# EAGLE library part LPC11A14/QFN_LITERAL (library microbuilder)
LPC11A14/QFN33 - 50MHz ARM Cortex M0 with 32kb Flash, 8kb SRAM, 10-bit ADC and DAC, Temperature Sensor, Analog Comparator, and 4kb EEPROM Temp Range: -40°C - 85°C VDD: 2.6-3.6V
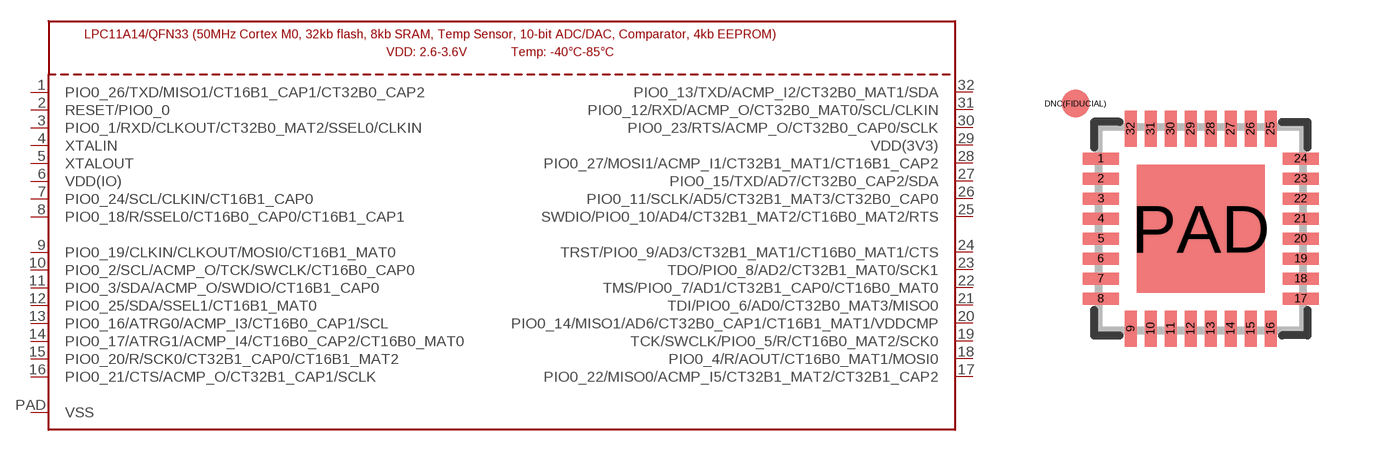
[diagram p205: symbol with the pads of HVQFN32; footprint HVQFN32]

Designator prefix U

## LPC11A14/QFN_LITERAL  [HVQFN32]
1  PIO0_26/TXD/MISO1/CT16B1_CAP1/CT32B0_CAP2
2  RESET/PIO0_0
3  PIO0_1/RXD/CLKOUT/CT32B0_MAT2/SSEL0/CLKIN
4  XTALIN  in
5  XTALOUT  out
6  VDD(IO)  sup
7  PIO0_24/SCL/CLKIN/CT16B1_CAP0
8  PIO0_18/R/SSEL0/CT16B0_CAP0/CT16B1_CAP1
9  PIO0_19/CLKIN/CLKOUT/MOSI0/CT16B1_MAT0
10  PIO0_2/SCL/ACMP_O/TCK/SWCLK/CT16B0_CAP0
11  PIO0_3/SDA/ACMP_O/SWDIO/CT16B1_CAP0
12  PIO0_25/SDA/SSEL1/CT16B1_MAT0
13  PIO0_16/ATRG0/ACMP_I3/CT16B0_CAP1/SCL
14  PIO0_17/ATRG1/ACMP_I4/CT16B0_CAP2/CT16B0_MAT0
15  PIO0_20/R/SCK0/CT32B1_CAP0/CT16B1_MAT2
16  PIO0_21/CTS/ACMP_O/CT32B1_CAP1/SCLK
17  PIO0_22/MISO0/ACMP_I5/CT32B1_MAT2/CT32B1_CAP2
18  PIO0_4/R/AOUT/CT16B0_MAT1/MOSI0
19  TCK/SWCLK/PIO0_5/R/CT16B0_MAT2/SCK0
20  PIO0_14/MISO1/AD6/CT32B0_CAP1/CT16B1_MAT1/VDDCMP
21  TDI/PIO0_6/AD0/CT32B0_MAT3/MISO0
22  TMS/PIO0_7/AD1/CT32B1_CAP0/CT16B0_MAT0
23  TDO/PIO0_8/AD2/CT32B1_MAT0/SCK1
24  TRST/PIO0_9/AD3/CT32B1_MAT1/CT16B0_MAT1/CTS
25  SWDIO/PIO0_10/AD4/CT32B1_MAT2/CT16B0_MAT2/RTS
26  PIO0_11/SCLK/AD5/CT32B1_MAT3/CT32B0_CAP0
27  PIO0_15/TXD/AD7/CT32B0_CAP2/SDA
28  PIO0_27/MOSI1/ACMP_I1/CT32B1_MAT1/CT16B1_CAP2
29  VDD(3V3)  sup
30  PIO0_23/RTS/ACMP_O/CT32B0_CAP0/SCLK
31  PIO0_12/RXD/ACMP_O/CT32B0_MAT0/SCL/CLKIN
32  PIO0_13/TXD/ACMP_I2/CT32B0_MAT1/SDA
PAD  VSS  sup

## Footprint HVQFN32 (pad centres in mm)
HVQFN32 SOT617-1 JEDEC MO-220
smd 0.9 x 0.3: 1 -2.5,1.75; 2 -2.5,1.25; 3 -2.5,0.75; 4 -2.5,0.25; 5 -2.5,-0.25; 6 -2.5,-0.75; 7 -2.5,-1.25; 8 -2.5,-1.75; 17 2.5,-1.75; 18 2.5,-1.25; 19 2.5,-0.75; 20 2.5,-0.25; 21 2.5,0.25; 22 2.5,0.75; 23 2.5,1.25; 24 2.5,1.75
smd 0.3 x 0.9: 9 -1.75,-2.5; 10 -1.25,-2.5; 11 -0.75,-2.5; 12 -0.25,-2.5; 13 0.25,-2.5; 14 0.75,-2.5; 15 1.25,-2.5; 16 1.75,-2.5; 25 1.75,2.5; 26 1.25,2.5; 27 0.75,2.5; 28 0.25,2.5; 29 -0.25,2.5; 30 -0.75,2.5; 31 -1.25,2.5; 32 -1.75,2.5
smd 0.7 x 0.7: DNC(FIDUCIAL) -3.127,3.127
smd 3.2 x 3.2: PAD 0,0